# EAGLE library part QSH-030-01-X-D-A-XX (library QSH-030-01-X-D-A-XX)
60 Position Connector Receptacle, Center Strip Contacts Surface Mount Gold
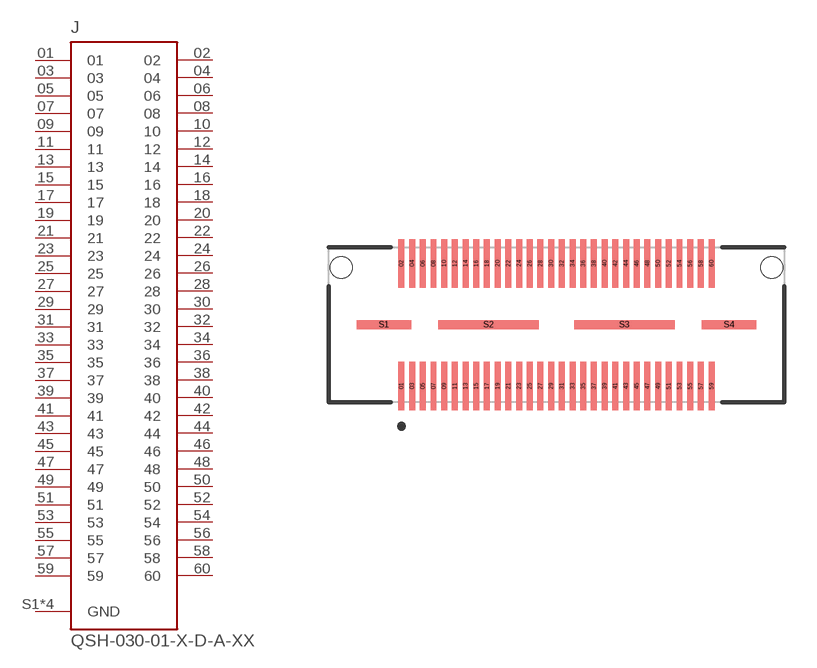
[diagram p0: symbol with the pads of SAMTEC_QSH-030-01-X-D-A-XX; footprint SAMTEC_QSH-030-01-X-D-A-XX]

Designator prefix J

## QSH-030-01-X-D-A-XX (MANUFACTURER: Samtec; MAXIMUM_PACKAGE_HEIGHT: 3.327mm; PARTREV: M; STANDARD: Manufacturer Recommendations)  [SAMTEC_QSH-030-01-X-D-A-XX]
01  01  pas
02  02  pas
03  03  pas
04  04  pas
05  05  pas
06  06  pas
07  07  pas
08  08  pas
09  09  pas
10  10  pas
11  11  pas
12  12  pas
13  13  pas
14  14  pas
15  15  pas
16  16  pas
17  17  pas
18  18  pas
19  19  pas
20  20  pas
21  21  pas
22  22  pas
23  23  pas
24  24  pas
25  25  pas
26  26  pas
27  27  pas
28  28  pas
29  29  pas
30  30  pas
31  31  pas
32  32  pas
33  33  pas
34  34  pas
35  35  pas
36  36  pas
37  37  pas
38  38  pas
39  39  pas
40  40  pas
41  41  pas
42  42  pas
43  43  pas
44  44  pas
45  45  pas
46  46  pas
47  47  pas
48  48  pas
49  49  pas
50  50  pas
51  51  pas
52  52  pas
53  53  pas
54  54  pas
55  55  pas
56  56  pas
57  57  pas
58  58  pas
59  59  pas
60  60  pas
S1  GND  pwr
S2  GND  pwr
S3  GND  pwr
S4  GND  pwr

## Footprint SAMTEC_QSH-030-01-X-D-A-XX (pad centres in mm)
smd 0.279 x 2.27: 01 -7.25,-2.865; 02 -7.25,2.865; 03 -6.75,-2.865; 04 -6.75,2.865; 05 -6.25,-2.865; 06 -6.25,2.865; 07 -5.75,-2.865; 08 -5.75,2.865; 09 -5.25,-2.865; 10 -5.25,2.865; 11 -4.75,-2.865; 12 -4.75,2.865; 13 -4.25,-2.865; 14 -4.25,2.865; 15 -3.75,-2.865; 16 -3.75,2.865; 17 -3.25,-2.865; 18 -3.25,2.865; 19 -2.75,-2.865; 20 -2.75,2.865; 21 -2.25,-2.865; 22 -2.25,2.865; 23 -1.75,-2.865; 24 -1.75,2.865; 25 -1.25,-2.865; 26 -1.25,2.865; 27 -0.75,-2.865; 28 -0.75,2.865; 29 -0.25,-2.865; 30 -0.25,2.865; 31 0.25,-2.865; 32 0.25,2.865; 33 0.75,-2.865; 34 0.75,2.865; 35 1.25,-2.865; 36 1.25,2.865; 37 1.75,-2.865; 38 1.75,2.865; 39 2.25,-2.865; 40 2.25,2.865; 41 2.75,-2.865; 42 2.75,2.865; 43 3.25,-2.865; 44 3.25,2.865; 45 3.75,-2.865; 46 3.75,2.865; 47 4.25,-2.865; 48 4.25,2.865; 49 4.75,-2.865; 50 4.75,2.865; 51 5.25,-2.865; 52 5.25,2.865; 53 5.75,-2.865; 54 5.75,2.865; 55 6.25,-2.865; 56 6.25,2.865; 57 6.75,-2.865; 58 6.75,2.865; 59 7.25,-2.865; 60 7.25,2.865
smd 2.54 x 0.43: S1 -8.065,0; S4 8.065,0
smd 4.7 x 0.43: S2 -3.175,0; S3 3.175,0
hole 1.02 at -10.065,2.67
hole 1.02 at 10.065,2.67